# Altium schematic symbol library TLV61046ADBVR.SchLib: 1 symbol
Pins are listed as number, name and electrical type; pins without a type are passive.

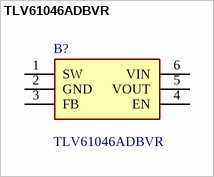
[diagram p0: symbol TLV61046ADBVR]

## TLV61046ADBVR
designator B?
Switching Voltage Regulators 28-V Output Voltage Boost Converter with Power Diode and Isolation Switch 6-SOT-23 -40 to 125; Manufacturer_Name: Texas Instruments; Geometry.Height: 1.45mm; TME Electronic Components Part Number: *; TME Electronic Components Price/Stock: *; Manufacturer_Part_Number: TLV61046ADBVR; Datasheet Link: http://www.ti.com/lit/ds/symlink/tlv61046a.pdf
footprint SOT95P280X145-6N
pins: 1 SW (power), 2 GND (power), 3 FB, 4 EN, 5 VOUT (power), 6 VIN